# EAGLE library part LTC6992-1 (library FE_Kenny)
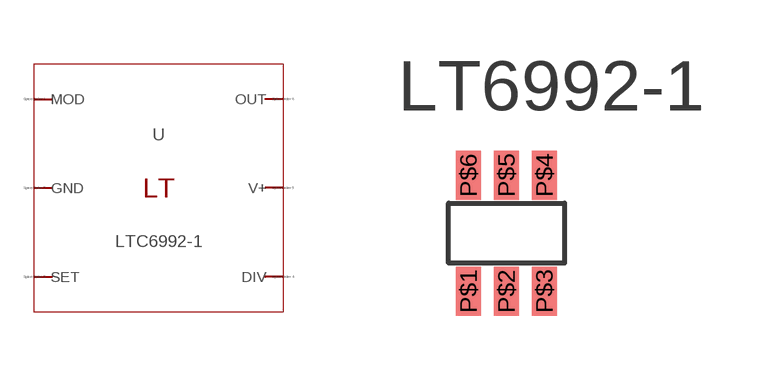
[diagram p1: symbol with the pads of LTC6992-1; footprint LTC6992-1]

Designator prefix -

## LTC6992-1  [LTC6992-1]
P$1  MOD  pas
P$2  GND  pas
P$3  SET  pas
P$4  DIV  pas
P$5  V+  pas
P$6  OUT  pas

## Footprint LTC6992-1 (pad centres in mm)
smd 0.62 x 1.22: P$1 0.5,-0.7; P$2 1.45,-0.7; P$3 2.4,-0.7; P$4 2.4,2.2; P$5 1.45,2.2; P$6 0.5,2.2